# Altium integrated library Relay.IntLib: 19 symbols
Pins are listed as number, name and electrical type; pins without a type are passive.

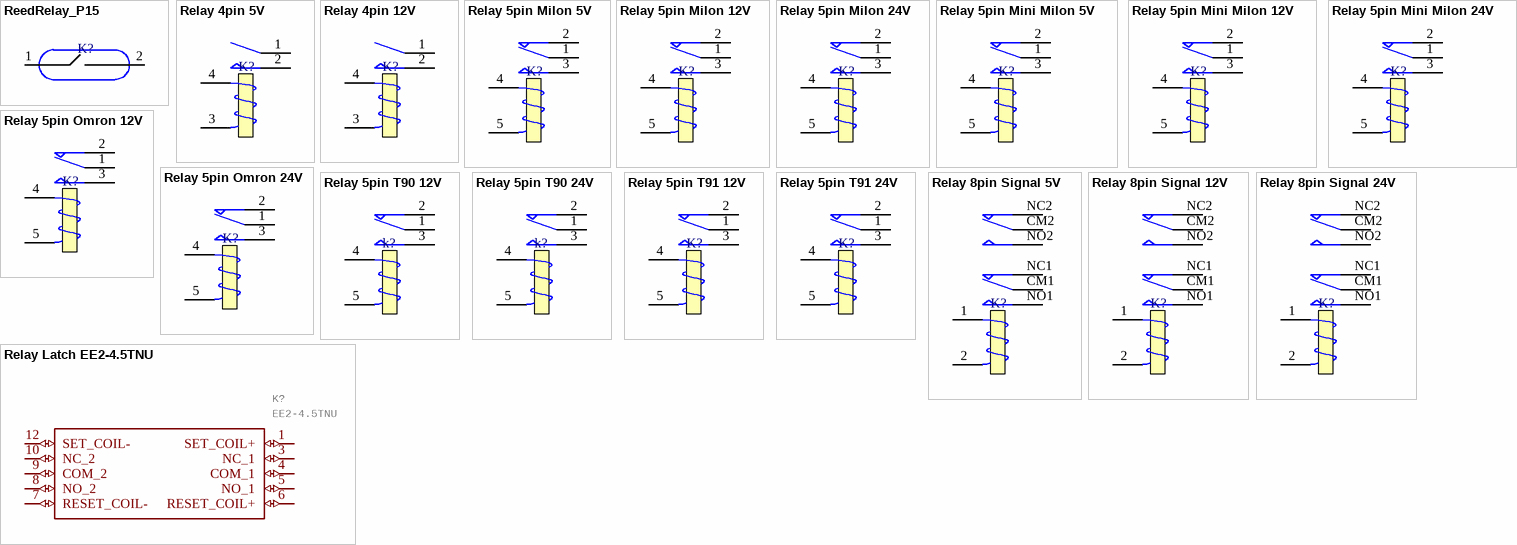
[diagram p0: symbols ReedRelay_P15 to Relay Latch EE2-4.5TNU]

## ReedRelay_P15
designator K?, comment MK15B2  (value not drawn)
Value: MK15B2
footprint REL_REED_RELAY_P16
pins: 1, 2

## Relay 4pin 5V
designator K?
PartNumber: TRG1D-05VDC-S-H
footprint REL_TYCO_4PIN
pins: 1 COM, 2 NO, 3 T2, 4 T1

## Relay 4pin 12V
designator K?
PartNumber: TRG1D-12VDC-S-H
footprint REL_TYCO_4PIN
pins: 1 COM, 2 NO, 3 T2, 4 T1

## Relay 5pin Milon 5V
designator K?
PartNumber: HJR-21FF-S-Z-05VDC
footprint REL_MILON
pins: 1 COM, 2 NC, 3 NO, 4 T1, 5 T2

## Relay 5pin Milon 12V
designator K?
PartNumber: HJR-21FF-S-Z-12VDC
footprint REL_MILON
pins: 1 COM, 2 NC, 3 NO, 4 T1, 5 T2

## Relay 5pin Milon 24V
designator K?
PartNumber: HJR-21FF-S-Z-24VDC
footprint REL_MILON
pins: 1 COM, 2 NC, 3 NO, 4 T1, 5 T2

## Relay 5pin Mini Milon 5V
designator K?
PartNumber: TRKM S-Z L05VDC
footprint REL_MILON_MINI
pins: 1 COM, 2 NC, 3 NO, 4 T1, 5 T2

## Relay 5pin Mini Milon 12V
designator K?
PartNumber: TRKM S-Z L12VDC
footprint REL_MILON_MINI
pins: 1 COM, 2 NC, 3 NO, 4 T1, 5 T2

## Relay 5pin Mini Milon 24V
designator K?
PartNumber: TRKM S-Z L24VDC
footprint REL_MILON_MINI
pins: 1 COM, 2 NC, 3 NO, 4 T1, 5 T2

## Relay 5pin Omron 12V
designator K?
PartNumber: G2R-1-DC12
footprint REL_OMRON_5PIN
pins: 1 COM, 2 NC, 3 NO, 4 T1, 5 T2

## Relay 5pin Omron 24V
designator K?
PartNumber: G2R-1-DC24
footprint REL_OMRON_5PIN
pins: 1 COM, 2 NC, 3 NO, 4 T1, 5 T2

## Relay 5pin T90 12V
designator k?
PartNumber: CMP7-S-DC12V-C
footprint REL_30A_T90
pins: 1 COM, 2 NC, 3 NO, 4 T1, 5 T2

## Relay 5pin T90 24V
designator k?
PartNumber: CMP7-S-DC24V-C
footprint REL_30A_T90
pins: 1 COM, 2 NC, 3 NO, 4 T1, 5 T2

## Relay 5pin T91 12V
designator K?
PartNumber: NT90TNCE12
footprint REL_30A
pins: 1 COM, 2 NC, 3 NO, 4 T1, 5 T2

## Relay 5pin T91 24V
designator K?
PartNumber: NT90TNCE24
footprint REL_30A
pins: 1 COM, 2 NC, 3 NO, 4 T1, 5 T2

## Relay 8pin Signal 5V
designator K?
PartNumber: HJR1-2CL-05V
footprint REL_SIGNAL
pins: 1 T1, 2 T2, CM1 COM, CM2 COM, NC1 NC, NC2 NC, NO1 NO, NO2 NO

## Relay 8pin Signal 12V
designator K?
PartNumber: HJR1-2CL-12V
footprint REL_SIGNAL
pins: 1 T1, 2 T2, CM1 COM, CM2 COM, NC1 NC, NC2 NC, NO1 NO, NO2 NO

## Relay 8pin Signal 24V
designator K?
PartNumber: HJR1-2CL-24V
footprint REL_SIGNAL
pins: 1 T1, 2 T2, CM1 COM, CM2 COM, NC1 NC, NC2 NC, NO1 NO, NO2 NO

## Relay Latch EE2-4.5TNU
designator K?, comment EE2-4.5TNU
PartNumber: EE2-4.5TNU
footprint REL_EE245TNU (Footprint not found)
pins: 1 SET_COIL+ (io), 3 NC_1 (io), 4 COM_1 (io), 5 NO_1 (io), 6 RESET_COIL+ (io), 7 RESET_COIL- (io), 8 NO_2 (io), 9 COM_2 (io), 10 NC_2 (io), 12 SET_COIL- (io)